# EAGLE library part LTC4055 (library xmaker)
Linear Technology LTC4055/LTC4055-1 - USB Power Controller and Li-Ion Linear Charger.
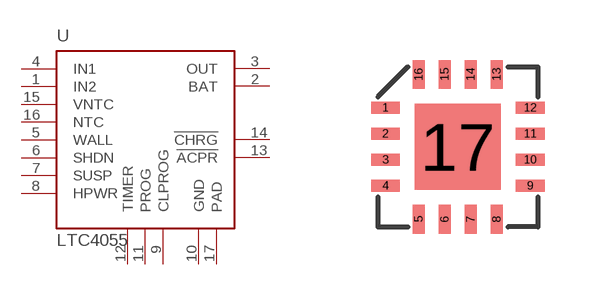
[diagram p11: symbol with the pads of QFN16-4X4-0.65; footprint QFN16-4X4-0.65]

Designator prefix U

## LTC4055EUF  [QFN16-4X4-0.65]
1  IN2
2  BAT
3  OUT
4  IN1
5  WALL
6  SHDN
7  SUSP
8  HPWR
9  CLPROG
10  GND
11  PROG
12  TIMER
13  !ACPR
14  !CHRG
15  VNTC
16  NTC
17  PAD

## Footprint QFN16-4X4-0.65 (pad centres in mm)
Quad Flat No Lead Package 4mm x 4mm, 0.65mm pitch
smd 0.72 x 0.3: 1 -1.81,0.975; 2 -1.81,0.325; 3 -1.81,-0.325; 4 -1.81,-0.975; 9 1.81,-0.975; 10 1.81,-0.325; 11 1.81,0.325; 12 1.81,0.975
smd 0.3 x 0.72: 5 -0.975,-1.81; 6 -0.325,-1.81; 7 0.325,-1.81; 8 0.975,-1.81; 13 0.975,1.81; 14 0.325,1.81; 15 -0.325,1.81; 16 -0.975,1.81
smd 2.15 x 2.15: 17 0,0